# Altium footprint library Tank.PcbLib: 288 footprints (part 4 of 18)
Each footprint in its own frame and in the unit in brackets; x right, y up, seen from the top. Pads: shape width x height; smd on the part's side, far side on the other; paste and mask are expansions set on the pad; w line width, h text height; cw(c..) or ccw(c..) is an arc to the next point about the centre after c.
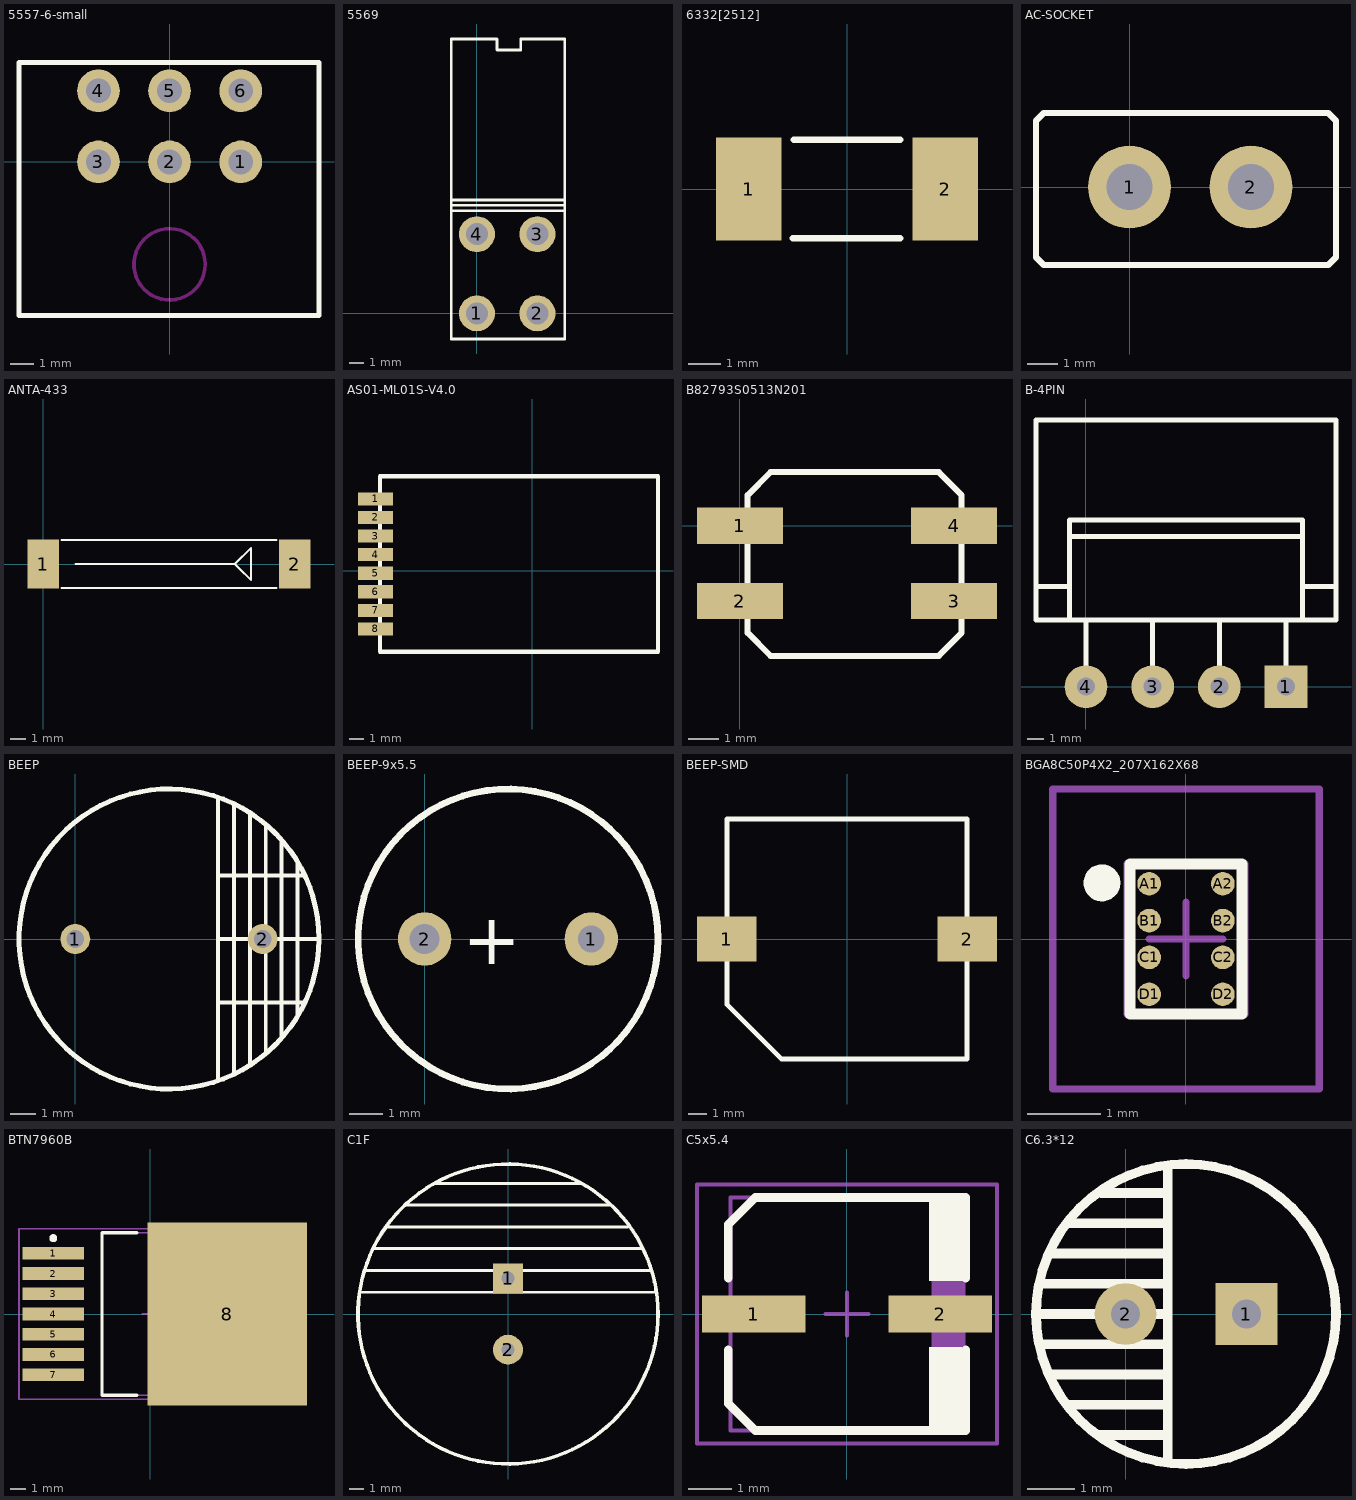
[diagram p3: the footprints below, top view; thin cyan lines are the x and y axes]

## 5557-6-small [mm]
pads (6):
  round 1.8 hole 1.05: 1(3,0) 2(0,0) 3(-3,0) 4(-3,3) 5(0,3) 6(3,3)
Top Overlay:
  lines w0.203: -6.35,-6.477 -6.35,4.191 6.302,4.191 6.302,-6.477 -6.35,-6.477
Keep-Out Layer:
  circle w0.152: c0,-4.32 r1.505

## 5569 [mm]
pads (4):
  round 2.5 hole 1.524: 1(0,0) 2(4.2,0) 3(4.2,5.5) 4(0,5.5)
Top Overlay:
  lines w0.178: -1.778,7.493 6.096,7.493 ; -1.778,7.874 6.096,7.874 ; -1.778,7.112 6.096,7.112 ; -1.778,7.112 -1.778,-1.778 6.096,-1.778 6.096,7.112 ; -1.778,7.112 -1.778,19.05 1.397,19.05 1.397,18.288 3.048,18.288 3.048,19.05 6.096,19.05 6.096,7.112

## 6332[2512] [mil] "Chip Resistor; Body 6.3 x 3.2 mm (LxW typ)"
height 23.62
pads (2):
  rect 80x125.98 smd: 1(-120,0) 2(120,0)
Top Overlay:
  lines w7.87: -65.98,-60 65,-60 ; -65,60 65,60

## AC-SOCKET [mm]
pads (2):
  round 2.7 hole 1.5: 1(0,0) 2(3.96,0)
Top Overlay:
  lines w0.203: -3.048,-2.286 -3.048,2.159 -2.794,2.413 6.477,2.413 6.731,2.159 6.731,-2.286 6.477,-2.54 -2.794,-2.54 -3.048,-2.286

## ANTA-433 [mm]
pads (2):
  rect 2x3.1 smd: 1(0,0) 2(16,0)
Top Overlay:
  lines w0.127: 1.143,-1.524 14.859,-1.524 ; 1.143,1.524 14.859,1.524 ; 2.032,0 12.192,0 ; 12.192,0 13.208,1.016 13.208,-1.016 12.446,-0.254 12.319,-0.127 12.192,0

## AS01-ML01S-V4.0 [mm]
pads (8):
  rect 2.4x0.9 smd: 1(-10.7,4.9) 2(-10.7,3.63) 3(-10.7,2.36) 4(-10.7,1.09) 5(-10.7,-0.18) 6(-10.7,-1.45) 7(-10.7,-2.72) 8(-10.7,-3.99)
Top Overlay:
  lines w0.3: -10.4,-5.55 8.6,-5.55 8.6,6.45 -10.4,6.45 -10.4,-5.55

## B82793S0513N201 [mm]
pads (4):
  rect 2.85x1.2 smd: 1(0,0) 2(0,-2.5) 3(7.112,-2.5) 4(7.112,0)
Top Overlay:
  lines w0.2: 0.254,-3.556 1.016,-4.318 6.604,-4.318 7.366,-3.556 7.366,1.016 6.604,1.778 1.016,1.778 0.254,1.016 0.254,-3.556

## B-4PIN [mm]
height 10
pads (4):
  rect 2.54x2.54 hole 1.062: 1(11.88,0)
  round 2.54 hole 1.062: 2(7.92,0) 3(3.96,0) 4(0,0)
Top Overlay:
  lines w0.305: -0.99,3.96 -0.99,5.94 ; -0.99,8.91 12.87,8.91 ; 0,0 0,3.96 ; 3.96,0 3.96,3.96 ; 7.92,0 7.92,3.96 ; 11.88,0 11.88,3.96 ; 12.87,3.96 12.87,8.91 ; 12.87,5.94 14.85,5.94 ; -2.97,5.94 -2.97,3.96 0,3.96 ; -2.97,5.94 -1.98,5.94 -0.99,5.94 ; -2.97,5.94 -2.97,15.84 14.85,15.84 14.85,3.96 0,3.96 ; -0.99,5.94 -0.99,9.9 12.87,9.9 12.87,8.91

## BEEP [mm]
pads (2):
  round 1.2 hole 0.7: 1(0,0) 2(7.5,0)
Top Overlay:
  circle w0.2: c3.75,0 r6
  lines w0.152: 5.715,-5.588 5.715,5.588 ; 5.715,-2.54 9.144,-2.54 ; 5.715,0 9.652,0 ; 5.715,2.54 9.144,2.54 ; 6.35,-5.334 6.35,5.334 ; 6.985,-4.953 6.985,5.08 ; 7.62,-4.572 7.62,4.572 ; 8.255,-3.937 8.255,3.937 ; 8.89,-3.048 8.89,3.048

## BEEP-9x5.5 [mm]
pads (2):
  round 1.6 hole 0.8: 1(5,0)
  round 1.6 hole 0.9: 2(0,0)
Top Overlay:
  circle w0.2: c2.5,0 r4.5
  text "+" at 1.143,-0.762 h1.52

## BEEP-SMD [mil]
pads (2):
  rect 125x95 smd: 1(-252.5,0) 2(252.5,0)
Top Overlay:
  lines w10: -251.97,-138.03 -251.97,251.97 251.97,251.97 251.97,-251.97 -138.03,-251.97 -251.97,-138.03

## BGA8C50P4X2_207X162X68 [mm] "BGA, 8-Leads, Body 2.1x1.6mm,  Pitch 0.50mm"
height 0.675
pads (8):
  round 0.32 smd: A1(-0.5,0.75) A2(0.5,0.75) B1(-0.5,0.25) B2(0.5,0.25) C1(-0.5,-0.25) C2(0.5,-0.25) D1(-0.5,-0.75) D2(0.5,-0.75)
Top Overlay:
  circle w0.25: c-1.141,0.762 r0.125
  lines w0.15: -0.762,-1.016 0.762,-1.016 0.762,1.016 -0.762,1.016 -0.762,-1.016
Mechanical 13:
  lines w0.1: -0.8,-1.025 0.8,-1.025 0.8,1.025 -0.8,1.025 -0.8,-1.025
Mechanical 15:
  lines w0.1: -0.5,0 0.5,0 ; 0,-0.5 0,0.5 ; -1.81,-2.035 1.81,-2.035 1.81,2.035 -1.81,2.035 -1.81,-2.035
3D body: height 0.67, standoff 0.27, extent -0.8,-1.025 0.8,1.025

## BTN7960B [mm] "D2-PAK, 8-Pads, Body 9.4x10.2mm (max), IPC Medium Density"
height 4.4
pads (8):
  rect 3.85x0.8 smd: 1(-6.1,3.81) 2(-6.1,2.54) 3(-6.1,1.27) 4(-6.1,0) 5(-6.1,-1.27) 6(-6.1,-2.54) 7(-6.1,-3.81)
  rect 10x11.5 smd: 8(4.826,0)
Top Overlay:
  circle w0.25: c-6.1,4.76 r0.125
  lines w0.2: -0.85,-5.1 -3.05,-5.1 -3.05,5.1 -0.85,5.1
Mechanical 13:
  lines w0.1: -3.05,-5.1 -3.05,5.1 6.4,5.1 6.4,-5.1 -3.05,-5.1
Mechanical 15:
  lines w0.1: -0.5,0 0.5,0 ; 0,-0.5 0,0.5 ; -8.25,-5.35 -8.25,5.35 8.25,5.35 8.25,-5.35 -8.25,-5.35
3D body: height 4.4, standoff 0.4, extent -3.05,-5.1 6.4,5.1

## C1F [mm]
pads (2):
  rect 2.1x2.1 hole 0.92: 1(0,2.5)
  round 2.1 hole 0.92: 2(0,-2.5)
Top Overlay:
  circle w0.254: c0,0 r10.5
  lines w0.203: -10.414,1.524 10.414,1.524 ; -9.906,3.048 9.906,3.048 ; -9.398,4.572 9.398,4.572 ; -8.382,6.096 8.382,6.096 ; -7.112,7.62 7.112,7.62 ; -5.08,9.144 5.08,9.144

## C5x5.4 [mm]
height 3.5
pads (2):
  rect 2.4x0.85 smd: 1(-2.159,0) 2(2.159,0)
Top Overlay:
  rectangle: 1.905,-2.667 2.667,-0.762
  rectangle: 1.905,0.762 2.794,2.667
  lines w0.2: -2.75,-0.825 -2.75,-2.076 -2.126,-2.7 2.75,-2.7 2.75,-0.825 ; -2.75,0.825 -2.75,2.076 -2.126,2.7 2.75,2.7 2.75,0.825
Mechanical 13:
  rectangle: 1.956,-2.692 2.682,2.708
  lines w0.1: -2.7,-2.7 2.7,-2.7 2.7,2.7 -2.7,2.7 -2.7,-2.7
Mechanical 15:
  lines w0.1: -0.5,0 0.5,0 ; 0,-0.5 0,0.5 ; -3.475,-3 3.475,-3 3.475,3 -3.475,3 -3.475,-3
3D body: height 3.5, standoff 0, extent -2.675,-2.7 2.725,2.7

## C6.3*12 [mm]
pads (2):
  rect 1.3x1.3 hole 0.6: 1(2.54,0)
  round 1.3 hole 0.6: 2(0,0)
Top Overlay:
  circle w0.2: c1.27,0 r3.15
  lines w0.203: -1.829,0 0.864,0 ; -1.778,-0.635 0.864,-0.635 ; -1.778,0.635 0.864,0.635 ; -1.575,-1.27 0.838,-1.27 ; -1.549,1.27 0.838,1.27 ; -1.194,1.905 0.813,1.905 ; -1.168,-1.905 0.889,-1.905 ; -0.559,-2.54 0.864,-2.54 ; -0.508,2.54 0.864,2.54 ; 0.889,-3.023 0.889,3.048